# EAGLE library part TPS54331DDA (library TSP54331 - Voltage Reg)
3A, 28V INPUT, STEP DOWN SWIFT DC/DC CONVERTER WITH ECO-MODE,SOIC-8
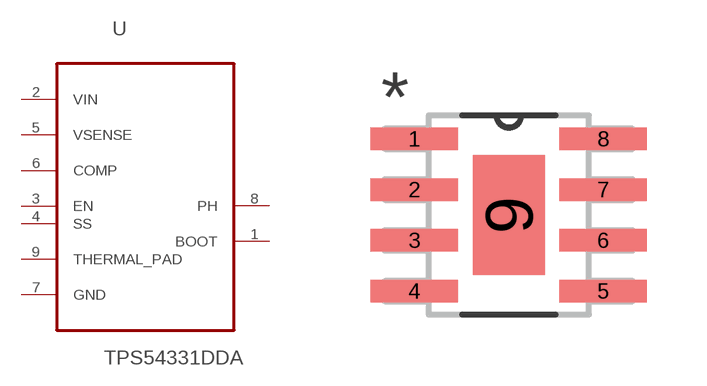
[diagram p0: symbol with the pads of SOIC127P600X170-9N; footprint SOIC127P600X170-9N]

Designator prefix U

## TPS54331DDA (MPN: TPS54331DDA; OC_FARNELL: 2082432; OC_NEWARK: 86T4767; PACKAGE: SOIC-8; SUPPLIER: TEXAS INSTRUMENTS)  [SOIC127P600X170-9N]
1  BOOT  out
2  VIN  in
3  EN  in
4  SS  in
5  VSENSE  pwr
6  COMP  in
7  GND  pas
8  PH  out
9  THERMAL_PAD  pas

## Footprint SOIC127P600X170-9N (pad centres in mm)
smd 2.184 x 0.559: 1 -2.362,1.905; 2 -2.362,0.635; 3 -2.362,-0.635; 4 -2.362,-1.905; 5 2.362,-1.905; 6 2.362,-0.635; 7 2.362,0.635; 8 2.362,1.905
smd 1.803 x 2.997: 9 0,0